# Altium footprint library Modulo de apertura.PcbLib: 17 footprints (part 1 of 2)
Each footprint in its own frame and in the unit in brackets; x right, y up, seen from the top. Pads: shape width x height; smd on the part's side, far side on the other; paste and mask are expansions set on the pad; w line width, h text height; cw(c..) or ccw(c..) is an arc to the next point about the centre after c.
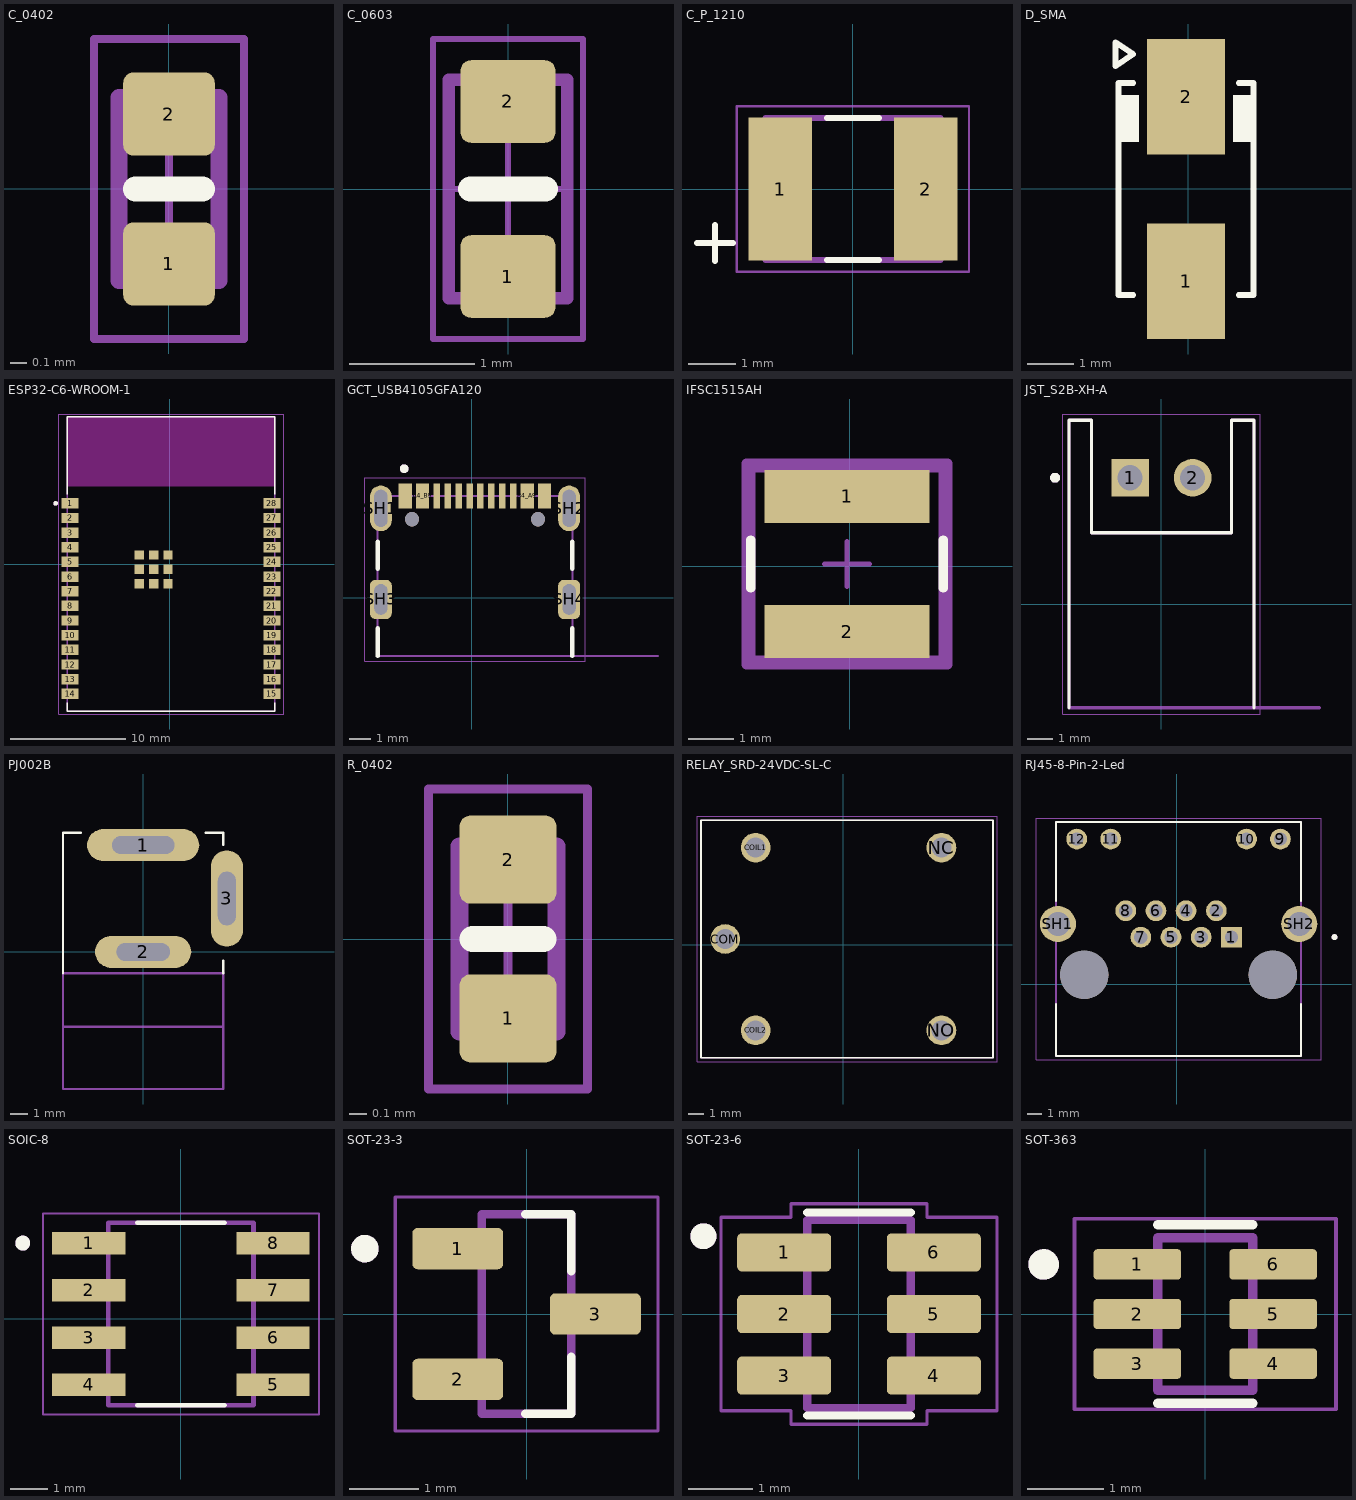
[diagram p0: the footprints below, top view; thin cyan lines are the x and y axes]

## C_0402 [mm]
pads (2):
  rrect25% 0.55x0.5 smd: 1(0,-0.45) 2(0,0.45)
Top Overlay:
  lines w0.15: -0.2,0 0.2,0
Top Assembly:
  lines w0.1: -0.3,-0.55 -0.3,0.55 0.3,0.55 0.3,-0.55 -0.3,-0.55
Top Courtyard:
  lines w0.05: -0.275,0 0.275,0 ; 0,-0.275 0,0.275 ; -0.45,-0.9 0.45,-0.9 0.45,0.9 -0.45,0.9 -0.45,-0.9
3D body "CAPC1005X60N EIA 0402.STEP": height 0.6, standoff 0, extent -0.25,-0.5 0.25,0.5

## C_0603 [mm]
pads (2):
  rrect25% 0.76x0.66 smd: 1(0,-0.7) 2(0,0.7)
Top Overlay:
  lines w0.2: -0.3,0 0.3,0
Top Assembly:
  lines w0.1: -0.475,-0.875 -0.475,0.875 0.475,0.875 0.475,-0.875 -0.475,-0.875
Top Courtyard:
  lines w0.05: -0.475,0 0.475,0 ; 0,-0.475 0,0.475 ; -0.6,-1.2 0.6,-1.2 0.6,1.2 -0.6,1.2 -0.6,-1.2
3D body "CAPC1608X95N EIA 0603.STEP": height 0.95, standoff 0, extent -0.4,-0.8 0.4,0.8

## C_P_1210 [mm]
pads (2):
  rect 1.34x3.02 smd: 1(-1.54,0) 2(1.54,0)
Top Overlay:
  lines w0.127: -3.302,-1.143 -2.54,-1.143 ; -2.921,-1.524 -2.921,-0.762 ; -0.55,-1.5 0.55,-1.5 ; -0.55,1.5 0.55,1.5
Mechanical 13:
  lines w0.127: -1.85,-1.5 1.85,-1.5 1.85,1.5 -1.85,1.5 -1.85,-1.5
Mechanical 15:
  lines w0.05: -2.458,-1.75 2.458,-1.75 2.458,1.75 -2.458,1.75 -2.458,-1.75
3D body "step_temp.STEP": height 2.1, standoff 0, extent -1.75,-1.4 1.75,1.4

## D_SMA [mm]
pads (2):
  rect 1.7x2.5 smd: 1(-0.047,-2.008) 2(-0.047,1.992)
Top Overlay:
  region: -1.063,1.008 -1.063,2.024 -1.571,2.024 -1.571,1.008
  region: 1.477,1.008 1.477,2.024 0.969,2.024 0.969,1.008
  lines w0.127: -1.19,-2.308 -1.507,-2.308 -1.507,2.292 -1.19,2.292 ; 1.096,-2.308 1.413,-2.308 1.413,2.292 1.096,2.292 ; -1.571,2.659 -1.571,3.167 -1.19,2.913 -1.571,2.659
3D body "User Library-DO-214AC(SMA).STEP": height 2.39, standoff 0.11, extent -1.444,-2.751 1.35,2.735

## ESP32-C6-WROOM-1 [mm]
pads (37):
  rect 1.5x0.9 smd: 1(-8.623,5.26) 2(-8.623,3.99) 3(-8.623,2.72) 4(-8.623,1.45) 5(-8.623,0.18) 6(-8.623,-1.09) 7(-8.623,-2.36) 8(-8.623,-3.63) 9(-8.623,-4.9) 10(-8.623,-6.17) 11(-8.623,-7.44) 12(-8.623,-8.71) 13(-8.623,-9.98) 14(-8.623,-11.25) 15(8.877,-11.25) 16(8.877,-9.98) 17(8.877,-8.71) 18(8.877,-7.44) 19(8.877,-6.17) 20(8.877,-4.9) 21(8.877,-3.63) 22(8.877,-2.36) 23(8.877,-1.09) 24(8.877,0.18) 25(8.877,1.45) 26(8.877,2.72) 27(8.877,3.99) 28(8.877,5.26)
  rect 0.8x0.8 smd: 29_1(-2.628,0.79) 29_2(-1.378,0.79) 29_3(-0.128,0.79) 29_4(-2.628,-0.46) 29_5(-1.378,-0.46) 29_6(-0.128,-0.46) 29_7(-2.628,-1.71) 29_8(-1.378,-1.71) 29_9(-0.128,-1.71)
Top Overlay:
  circle w0.2: c-9.873,5.25 r0.1
  lines w0.127: -8.873,-12.02 -8.873,-12.75 9.127,-12.75 9.127,-12.02 ; -8.873,6.03 -8.873,12.75 9.127,12.75 9.127,6.03
Keep-Out Layer:
  region: 9.127,6.75 -8.873,6.75 -8.873,12.75 9.127,12.75
Mechanical 13:
  circle w0.2: c-9.873,5.25 r0.1
  lines w0.127: -8.873,-12.75 9.127,-12.75 9.127,12.75 -8.873,12.75 -8.873,-12.75
Mechanical 15:
  lines w0.05: -9.623,-13 -9.623,13 9.877,13 9.877,-13 -9.623,-13
3D body "step_temp.STEP": height 3.25, standoff 0, extent -8.873,-12.75 9.127,12.75

## GCT_USB4105GFA120 [mm]
pads (18):
  rect 0.6x1.15 smd: A1_B12(-3.047,4.676) A4_B9(-2.247,4.676) B1_A12(3.353,4.676) B4_A9(2.553,4.676)
  rect 0.3x1.15 smd: A5(-1.097,4.676) A6(-0.097,4.676) A7(0.403,4.676) A8(1.403,4.676) B5(1.903,4.676) B6(0.903,4.676) B7(-0.597,4.676) B8(-1.597,4.676)
  oval 1x2.1 hole 0.6 slot 1.7 at 90 deg: SH1(-4.167,4.101) SH2(4.473,4.101)
  rrect50% 1x1.8 hole 0.6 slot 1.4 at 90 deg: SH3(-4.167,-0.079) SH4(4.473,-0.079)
  round 0.65 hole 0.65 unplated: ""(-2.737,3.601) ""(3.043,3.601)
Top Overlay:
  circle w0.2: c-3.097,5.921 r0.1
  lines w0.2: -4.317,-2.679 -4.317,-1.399 ; -4.317,1.321 -4.317,2.571 ; 4.623,-2.679 4.623,-1.399 ; 4.623,1.321 4.623,2.571
Mechanical 13:
  circle w0.2: c-3.097,5.921 r0.1
  lines w0.1: 8.553,-2.679 4.623,-2.679 ; 4.623,-2.679 4.623,4.671 -4.317,4.671 -4.317,-2.679 4.623,-2.679
  text "PCB EDGE" at 5.553,-2.579 h0.41
Mechanical 15:
  lines w0.05: -4.917,-2.929 -4.917,5.501 5.223,5.501 5.223,-2.929 -4.917,-2.929
3D body "step_temp.STEP": height 3.31, standoff -1.2, extent -4.317,-2.679 4.623,5.031

## IFSC1515AH [mm]
pads (2):
  rect 3.6x1.15 smd paste+0 mask+0: 1(-0.061,1.529) 2(-0.061,-1.421)
Top Overlay:
  lines w0.2: -2.161,-0.471 -2.161,0.579 ; 2.039,-0.471 2.039,0.579
Top Assembly:
  lines w0.2: -2.261,-2.146 2.139,-2.146 2.139,2.254 -2.261,2.254 -2.261,-2.146
  text ".Designator" at -2.286,-2.987 h1
Top Courtyard:
  lines w0.2: -2.261,-2.146 2.139,-2.146 2.139,2.254 -2.261,2.254 -2.261,-2.146
Top Component Center:
  lines w0.1: -0.561,0.054 0.439,0.054 ; -0.061,-0.446 -0.061,0.554
Top 3D Body:
  lines w0.2: -2.161,-2.046 2.039,-2.046 2.039,2.154 -2.161,2.154 -2.161,-2.046
3D body "Ind_Vishay_IFSC1515AHER470M01_eec.STEP": height 1.9, standoff 0.01, extent -2.061,-1.946 1.939,2.054

## JST_S2B-XH-A [mm]
pads (2):
  rect 1.508x1.508 / inner round 1.508 / far side rect 1.508x1.508 hole 1: 1(-1.25,5.065)
  round 1.508 hole 1: 2(1.25,5.065)
Top Overlay:
  circle w0.2: c-4.25,5.065 r0.1
  lines w0.127: -3.7,-4.135 -3.7,7.365 -2.8,7.365 -2.8,2.865 2.8,2.865 2.8,7.365 3.7,7.365 3.7,-4.135
Mechanical 13:
  circle w0.2: c-4.25,5.065 r0.1
  lines w0.127: 6.32,-4.135 3.7,-4.135 ; 3.7,-4.135 -3.7,-4.135 -3.7,7.365 -2.8,7.365 -2.8,2.865 2.8,2.865 2.8,7.365 3.7,7.365 3.7,-4.135
  text "PCB Edge" at 4.167,-3.838 h0.81
Mechanical 15:
  lines w0.05: -3.95,-4.385 -3.95,7.615 3.95,7.615 3.95,-4.385 -3.95,-4.385
3D body "step_temp.STEP": height 6.1, standoff -3.4, extent -3.7,-4.135 3.7,7.365

## PJ002B [mm]
pads (3):
  oval 6.3x1.8 hole 1 slot 3.5 at 0 deg: 1(0,6)
  oval 5.4x1.8 hole 1 slot 3 at 0 deg: 2(0,0)
  oval 1.8x5.4 hole 1 slot 3 at 90 deg: 3(4.7,3)
Top Overlay:
  lines w0.127: -4.5,-1.2 -4.5,6.7 -3.5,6.7 ; 3.5,6.7 4.5,6.7 4.5,6 ; 4.5,-1.2 4.5,-0.5
Top Component Center:
  lines w0.127: -4.5,-4.2 4.5,-4.2 ; -4.5,-7.7 4.5,-7.7 4.5,-1.2 -4.5,-1.2 -4.5,-7.7
3D body "User Library-PJ-002AH.STEP": height 11.05, standoff -3.45, extent -4.7,-7.7 4.7,6.7

## R_0402 [mm]
pads (2):
  rrect25% 0.55x0.5 smd: 1(0,-0.45) 2(0,0.45)
Top Overlay:
  lines w0.15: -0.2,0 0.2,0
Top Assembly:
  lines w0.1: -0.275,-0.525 0.275,-0.525 0.275,0.525 -0.275,0.525 -0.275,-0.525
Top Courtyard:
  lines w0.05: -0.275,0 0.275,0 ; 0,-0.275 0,0.275 ; -0.45,-0.85 0.45,-0.85 0.45,0.85 -0.45,0.85 -0.45,-0.85
3D body "RES0402.step": height 0.3, standoff 0, extent -0.25,-0.5 0.25,0.5

## RELAY_SRD-24VDC-SL-C [mm]
height 15.8
pads (5):
  round 1.95 hole 1.3: COIL1(-5.746,6.381) COIL2(-5.746,-5.619) COM(-7.746,0.381) NC(6.454,6.381) NO(6.454,-5.619)
Top Overlay:
  lines w0.127: -9.346,-7.419 -9.346,8.181 9.854,8.181 9.854,-7.419 -9.346,-7.419
Mechanical 13:
  lines w0.127: -9.346,-7.419 -9.346,8.181 9.854,8.181 9.854,-7.419 -9.346,-7.419
Mechanical 15:
  lines w0.05: -9.596,-7.669 -9.596,8.431 10.104,8.431 10.104,-7.669 -9.596,-7.669
3D body "step_temp.STEP": height 15.8, standoff -3, extent -9.346,-7.419 9.854,8.181

## RJ45-8-Pin-2-Led [mm]
pads (16):
  rect 1.398x1.398 / inner round 1.398 / far side rect 1.398x1.398 hole 0.89: 1(3.683,3.175)
  round 1.398 hole 0.89: 2(2.667,4.953) 3(1.651,3.175) 4(0.635,4.953) 5(-0.381,3.175) 6(-1.397,4.953) 7(-2.413,3.175) 8(-3.429,4.953) 9(6.985,9.779) 10(4.699,9.779) 11(-4.445,9.779) 12(-6.731,9.779)
  round 2.43 hole 1.62: SH1(-8.001,4.064) SH2(8.255,4.064)
  round 3.25 hole 3.25 unplated: ""(-6.223,0.635) ""(6.477,0.635)
Top Overlay:
  circle w0.2: c10.627,3.175 r0.1
  lines w0.127: -8.128,-1.335 -8.128,-4.825 8.382,-4.825 8.382,-1.335 ; -8.128,5.603 -8.128,10.925 8.382,10.925 8.382,5.603
Mechanical 13:
  circle w0.2: c10.627,3.175 r0.1
  lines w0.127: -8.128,-4.825 -8.128,10.925 8.382,10.925 8.382,-4.825 -8.128,-4.825
Mechanical 15:
  lines w0.05: -9.473,-5.075 9.727,-5.075 9.727,11.175 -9.473,11.175 -9.473,-5.075
3D body "RJ45_Amphenol_RJHSE538X.step": height 15.5, standoff -3.18, extent -8.128,-5.128 8.382,10.922

## SOIC-8 [mm]
height 1.75
pads (8):
  rect 1.97x0.6 smd: 1(-2.475,2.032) 2(-2.475,0.762) 3(-2.475,-0.508) 4(-2.475,-1.778) 5(2.475,-1.778) 6(2.475,-0.508) 7(2.475,0.762) 8(2.475,2.032)
Top Overlay:
  circle w0.2: c-4.25,2.032 r0.1
  lines w0.127: -1.17,-2.323 1.17,-2.323 ; -1.17,2.577 1.17,2.577
Mechanical 13:
  circle w0.2: c-4.25,2.032 r0.1
  lines w0.127: -1.95,-2.323 -1.95,2.577 1.95,2.577 1.95,-2.323 -1.95,-2.323
Mechanical 15:
  lines w0.05: -3.71,-2.573 -3.71,2.827 3.71,2.827 3.71,-2.573 -3.71,-2.573
3D body "step_temp.STEP": height 1.75, standoff 0, extent -3,-2.323 3,2.577

## SOT-23-3 [mm]
pads (3):
  rrect25% 1.32x0.6 smd: 1(-1,0.95) 2(-1,-0.95) 3(1,0)
Top Overlay:
  circle w0.2: c-2.35,0.95 r0.1
  lines w0.127: -0.02,-1.45 0.65,-1.45 0.65,-0.62 ; -0.02,1.45 0.65,1.45 0.65,0.62
Mechanical 13:
  circle w0.2: c-2.35,0.95 r0.1
  lines w0.127: -0.65,-1.45 0.65,-1.45 0.65,1.45 -0.65,1.45 -0.65,-1.45
Mechanical 15:
  lines w0.05: -1.91,-1.7 -1.91,1.7 1.91,1.7 1.91,-1.7 -1.91,-1.7
3D body "step_temp.STEP": height 1.2, standoff 0, extent -1.2,-1.45 1.2,1.45

## SOT-23-6 [mm]
pads (6):
  rrect25% 1.45x0.59 smd: 1(-1.155,0.95) 2(-1.155,0) 3(-1.155,-0.95) 4(1.155,-0.95) 5(1.155,0) 6(1.155,0.95)
Top Overlay:
  circle w0.2: c-2.4,1.2 r0.1
  lines w0.127: -0.8,-1.565 0.8,-1.565 ; -0.8,1.565 0.8,1.565
Mechanical 13:
  circle w0.2: c-2.4,1.2 r0.1
  lines w0.127: -0.8,-1.45 -0.8,1.45 0.8,1.45 0.8,-1.45 -0.8,-1.45
Mechanical 15:
  lines w0.05: -2.13,-1.495 -2.13,1.495 -1.05,1.495 -1.05,1.7 1.05,1.7 1.05,1.495 2.13,1.495 2.13,-1.495 1.05,-1.495 1.05,-1.7 -1.05,-1.7 -1.05,-1.495 -2.13,-1.495
3D body "step_temp.STEP": height 1.1, standoff 0, extent -1.4,-1.45 1.4,1.45

## SOT-363 [mm]
pads (6):
  rrect25% 1.15x0.4 smd: 1(-0.89,0.65) 2(-0.89,0) 3(-0.89,-0.65) 4(0.89,-0.65) 5(0.89,0) 6(0.89,0.65)
Top Overlay:
  circle w0.2: c-2.12,0.65 r0.1
  lines w0.127: -0.625,-1.17 0.625,-1.17 ; -0.625,1.17 0.625,1.17
Mechanical 13:
  circle w0.2: c-2.12,0.65 r0.1
  lines w0.127: -0.625,-1 -0.625,1 0.625,1 0.625,-1 -0.625,-1
Mechanical 15:
  lines w0.05: -1.715,-1.25 -1.715,1.25 1.715,1.25 1.715,-1.25 -1.715,-1.25
3D body "step_temp.STEP": height 1.1, standoff 0, extent -1.05,-1 1.05,1